# EAGLE library part CS8416-SOFTWAREMODE (library cs8412)
24bit 192kHz Digital Audio Interface Receiver - Software Mode
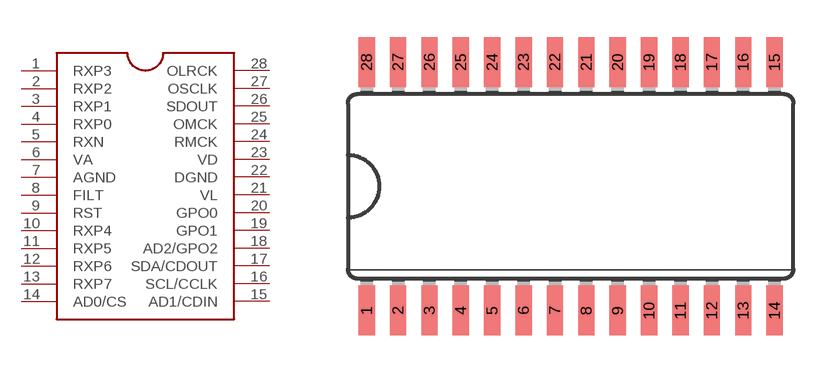
[diagram p4: symbol with the pads of SO28L; footprint SO28L]

Designator prefix -

## CS8416-SOFTWAREMODESOFTWAREMODE  [SO28L]
1  RXP3
2  RXP2
3  RXP1
4  RXP0
5  RXN
6  VA
7  AGND
8  FILT
9  RST
10  RXP4
11  RXP5
12  RXP6
13  RXP7
14  AD0/CS
15  AD1/CDIN
16  SCL/CCLK
17  SDA/CDOUT
18  AD2/GPO2
19  GPO1
20  GPO0
21  VL
22  DGND
23  VD
24  RMCK
25  OMCK
26  SDOUT
27  OSCLK
28  OLRCK

## Footprint SO28L (pad centres in mm)
Small Outline Package MAX3221-MAX3243.pdf; SO28W
smd 0.66 x 2.032: 1 -8.255,-5.029; 2 -6.985,-5.029; 3 -5.715,-5.029; 4 -4.445,-5.029; 5 -3.175,-5.029; 6 -1.905,-5.029; 7 -0.635,-5.029; 8 0.635,-5.029; 9 1.905,-5.029; 10 3.175,-5.029; 11 4.445,-5.029; 12 5.715,-5.029; 13 6.985,-5.029; 14 8.255,-5.029; 15 8.255,5.029; 16 6.985,5.029; 17 5.715,5.029; 18 4.445,5.029; 19 3.175,5.029; 20 1.905,5.029; 21 0.635,5.029; 22 -0.635,5.029; 23 -1.905,5.029; 24 -3.175,5.029; 25 -4.445,5.029; 26 -5.715,5.029; 27 -6.985,5.029; 28 -8.255,5.029